# Altium footprint library TX_fsi6.PcbLib: 25 footprints (part 2 of 2)
Each footprint in its own frame and in the unit in brackets; x right, y up, seen from the top. Pads: shape width x height; smd on the part's side, far side on the other; paste and mask are expansions set on the pad; w line width, h text height; cw(c..) or ccw(c..) is an arc to the next point about the centre after c.
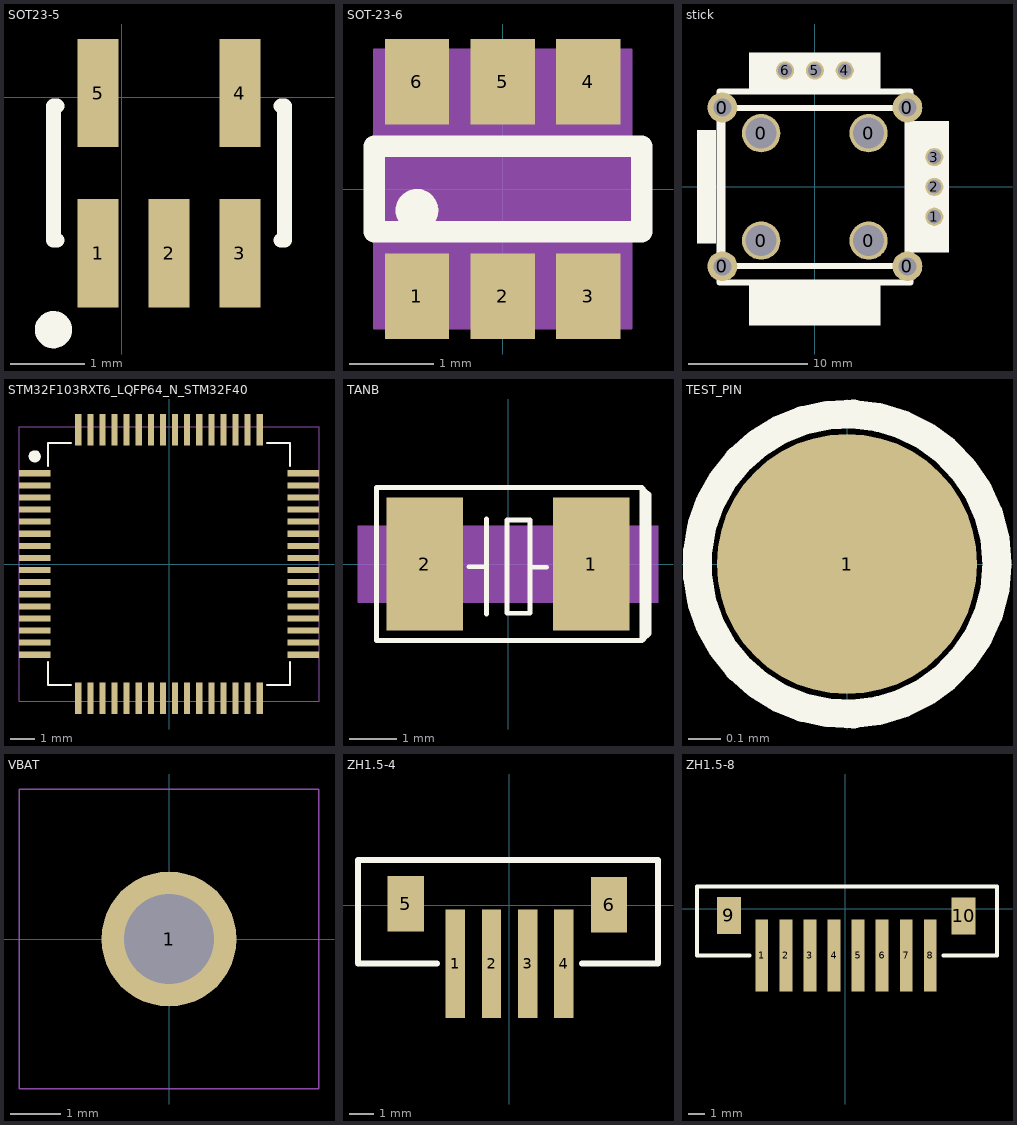
[diagram p1: the footprints below, top view; thin cyan lines are the x and y axes]

## SOT23-5 [mm]
height 0.45
pads (5):
  rect 0.55x1.45 smd: 1(-0.315,-2.091) 2(0.635,-2.091) 3(1.585,-2.091) 4(1.585,0.059) 5(-0.315,0.059)
Top Overlay:
  circle w0.25: c-0.915,-3.116 r0.125
  lines w0.2: -0.865,-1.916 -0.915,-1.916 -0.915,-0.116 -0.865,-0.116 ; 2.135,-1.916 2.185,-1.916 2.185,-0.116 2.135,-0.116

## SOT-23-6 [mil] "SOT-23-6"
height 17.72
pads (6):
  rect 30x40 smd: 1(-40,-50) 2(0,-50) 3(40,-50) 4(40,50) 5(0,50) 6(-40,50)
Top Overlay:
  circle w10: c-40,-10 r5
  lines w10: -60,-20 -60,20 65,20 65,-20 -60,-20
Mechanical 11:
  lines w1: -60,-65 -60,65 60,65 60,-65 -60,-65
Mechanical 12:
  region: -60,-65 60,-65 60,65 -60,65

## stick [mm]
pads (14):
  round 2.5 hole 1.5: 0(-7.75,-6.65) 0(-7.75,6.65) 0(7.75,-6.65) 0(7.75,6.65)
  round 3.2 hole 2.6: 0(-4.5,-4.5) 0(-4.5,4.5) 0(4.5,-4.5) 0(4.5,4.5)
  round 1.524 hole 1.143: 1(10,-2.5) 2(10,0) 3(10,2.5) 4(2.5,9.75) 5(0,9.75) 6(-2.5,9.75)
Top Overlay:
  region: 11.25,-5.5 11.25,5.5 8.25,5.5 8.25,-5.5
  rectangle: -9.875,-4.75 -8.275,4.75
  rectangle: -5.5,8.25 5.5,11.25
  region: 5.5,-8 -5.5,-8 -5.5,-11.6 5.5,-11.6
  lines w0.5: -7.75,6.625 7.75,6.625 7.75,-6.625 -7.75,-6.625 -7.75,6.675 ; -8,-8 8,-8 8,8 -8,8 -8,-8

## STM32F103RXT6_LQFP64_N_STM32F40 [mm] "STM32F103RXT6_LQFP64_N_STM32F40"
height 0.45
pads (64):
  rect 1.3x0.25 smd: 1(-5.55,3.75) 2(-5.55,3.25) 3(-5.55,2.75) 4(-5.55,2.25) 5(-5.55,1.75) 6(-5.55,1.25) 7(-5.55,0.75) 8(-5.55,0.25) 9(-5.55,-0.25) 10(-5.55,-0.75) 11(-5.55,-1.25) 12(-5.55,-1.75) 13(-5.55,-2.25) 14(-5.55,-2.75) 15(-5.55,-3.25) 16(-5.55,-3.75) 33(5.55,-3.75) 34(5.55,-3.25) 35(5.55,-2.75) 36(5.55,-2.25) 37(5.55,-1.75) 38(5.55,-1.25) 39(5.55,-0.75) 40(5.55,-0.25) 41(5.55,0.25) 42(5.55,0.75) 43(5.55,1.25) 44(5.55,1.75) 45(5.55,2.25) 46(5.55,2.75) 47(5.55,3.25) 48(5.55,3.75)
  rect 0.25x1.3 smd: 17(-3.75,-5.55) 18(-3.25,-5.55) 19(-2.75,-5.55) 20(-2.25,-5.55) 21(-1.75,-5.55) 22(-1.25,-5.55) 23(-0.75,-5.55) 24(-0.25,-5.55) 25(0.25,-5.55) 26(0.75,-5.55) 27(1.25,-5.55) 28(1.75,-5.55) 29(2.25,-5.55) 30(2.75,-5.55) 31(3.25,-5.55) 32(3.75,-5.55) 49(3.75,5.55) 50(3.25,5.55) 51(2.75,5.55) 52(2.25,5.55) 53(1.75,5.55) 54(1.25,5.55) 55(0.75,5.55) 56(0.25,5.55) 57(-0.25,5.55) 58(-0.75,5.55) 59(-1.25,5.55) 60(-1.75,5.55) 61(-2.25,5.55) 62(-2.75,5.55) 63(-3.25,5.55) 64(-3.75,5.55)
Top Overlay:
  circle w0.25: c-5.55,4.45 r0.125
  lines w0.1: -5,-4.064 -5,-5 -4.064,-5 ; -5,4.064 -5,5 -4.064,5 ; 4.064,-5 5,-5 5,-4.064 ; 4.064,5 5,5 5,4.064
Mechanical 10:
  text "28" at 1.242,-5.55 h0.64
  text "34" at 5.042,-3.25 h0.64
  text "8" at -5.804,0.25 h0.64
  text "9" at -5.804,-0.25 h0.64
  text "7" at -5.804,0.75 h0.64
  text "12" at -6.058,-1.75 h0.64
  text "63" at -3.758,5.55 h0.64
  text "18" at -3.758,-5.55 h0.64
  text "1" at -5.804,3.75 h0.64
  text "64" at -4.258,5.55 h0.64
  text "19" at -3.258,-5.55 h0.64
  text "48" at 5.042,3.75 h0.64
  text "32" at 3.242,-5.55 h0.64
  text "44" at 5.042,1.75 h0.64
  text "21" at -2.258,-5.55 h0.64
  text "38" at 5.042,-1.25 h0.64
  text "37" at 5.042,-1.75 h0.64
  text "23" at -1.258,-5.55 h0.64
  text "22" at -1.758,-5.55 h0.64
  text "4" at -5.804,2.25 h0.64
  text "42" at 5.042,0.75 h0.64
  text "41" at 5.042,0.25 h0.64
  text "50" at 2.742,5.55 h0.64
  text "51" at 2.242,5.55 h0.64
  text "58" at -1.258,5.55 h0.64
  text "39" at 5.042,-0.75 h0.64
  text "40" at 5.042,-0.25 h0.64
  text "59" at -1.758,5.55 h0.64
  text "43" at 5.042,1.25 h0.64
  text "16" at -6.058,-3.75 h0.64
  text "3" at -5.804,2.75 h0.64
  text "2" at -5.804,3.25 h0.64
  text "27" at 0.742,-5.55 h0.64
  text "35" at 5.042,-2.75 h0.64
  text "45" at 5.042,2.25 h0.64
  text "26" at 0.242,-5.55 h0.64
  text "10" at -6.058,-0.75 h0.64
  text "56" at -0.258,5.55 h0.64
  text "57" at -0.758,5.55 h0.64
  text "24" at -0.758,-5.55 h0.64
  text "25" at -0.258,-5.55 h0.64
  text "11" at -6.058,-1.25 h0.64
  text "5" at -5.804,1.75 h0.64
  text "6" at -5.804,1.25 h0.64
  text "13" at -6.058,-2.25 h0.64
  text "31" at 2.742,-5.55 h0.64
  text "47" at 5.042,3.25 h0.64
  text "60" at -2.258,5.55 h0.64
  text "46" at 5.042,2.75 h0.64
  text "49" at 3.242,5.55 h0.64
  text "55" at 0.242,5.55 h0.64
  text "52" at 1.742,5.55 h0.64
  text "53" at 1.242,5.55 h0.64
  text "54" at 0.742,5.55 h0.64
  text "36" at 5.042,-2.25 h0.64
  text "61" at -2.758,5.55 h0.64
  text "62" at -3.258,5.55 h0.64
  text "33" at 5.042,-3.75 h0.64
  text "20" at -2.758,-5.55 h0.64
  text "15" at -6.058,-3.25 h0.64
  text "14" at -6.058,-2.75 h0.64
  text "17" at -4.258,-5.55 h0.64
  text "30" at 2.242,-5.55 h0.64
  text "29" at 1.742,-5.55 h0.64
Mechanical 11:
  lines w0.025: -6.2,-5.675 6.2,-5.675 6.2,5.675 -6.2,5.675 -6.2,-5.675
Mechanical 12:
  lines w0.025: -6.2,-5.675 6.2,-5.675 6.2,5.675 -6.2,5.675 -6.2,-5.675

## TANB [mil] "TANB"
height 17.72
pads (2):
  rect 63x110 smd: 1(68.7,0) 2(-68.7,0)
Top Overlay:
  lines w3.94: -32.44,-2.36 -18.46,-2.36 ; -17.68,-41.46 -17.68,37.17 ; 20.2,-2.64 32.01,-2.64 ; 110.65,62.74 113.78,59.61 113.78,-59.61 112.76,-60.63 ; 111.71,-62.15 116.38,-57.48 116.38,57.32 115.43,58.27 ; -108.43,-62.99 110.43,-62.99 110.43,62.99 -108.43,62.99 -108.43,-62.99 ; -0.91,-40.67 -0.91,36.34 18.15,36.34 18.15,-40.67 -0.91,-40.67
Mechanical 14:
  lines w1: -123.7,-31.5 -123.7,31.5 123.7,31.5 123.7,-31.5 -123.7,-31.5
Mechanical 15:
  region: 123.7,31.5 123.7,-31.5 -123.7,-31.5 -123.7,31.5

## TEST_PIN [mm]
height 0.45
pads (1):
  round 0.8 smd: 1(0,0)
Top Overlay:
  circle w0.089: c0,0 r0.461

## VBAT [mm] "VBAT"
height 0.45
pads (1):
  round 2.7 hole 1.8: 1(0,0)
Mechanical 10:
  text "1" at -1.778,0 h0.64
Mechanical 11:
  lines w0.025: -3,-3 3,-3 3,3 -3,3 -3,-3
Mechanical 12:
  lines w0.025: -3,-3 3,-3 3,3 -3,3 -3,-3

## ZH1.5-4 [mm]
pads (6):
  rect 0.8x4.5 smd: 1(-2.235,-2.413) 2(-0.735,-2.413) 3(0.765,-2.413) 4(2.265,-2.413)
  rect 1.5x2.3 smd: 5(-4.293,0.076) 6(4.14,0.025)
Top Overlay:
  lines w0.254: -2.997,-2.413 -6.274,-2.413 -6.274,1.88 6.172,1.88 6.172,-2.413 3.023,-2.413

## ZH1.5-8 [mm]
pads (10):
  rect 0.8x4.5 smd: 1(-5.207,-2.896) 2(-3.707,-2.896) 3(-2.207,-2.896) 4(-0.707,-2.896) 5(0.793,-2.896) 6(2.293,-2.896) 7(3.793,-2.896) 8(5.293,-2.896)
  rect 1.5x2.3 smd: 9(-7.264,-0.406) 10(7.366,-0.432)
Top Overlay:
  lines w0.254: -5.969,-2.896 -9.246,-2.896 -9.246,1.397 9.449,1.397 9.449,-2.896 6.121,-2.896